# EAGLE library part ATSAMD2*E1* (library maxorig)
ATSAMD2*E - 32bit low-power Cortex M0+ microcontroller This part is for the lowest pin count pieces in the SAMD20 and SAMD21 series of low-power microcontrollers. The SAMD21 series adds USB and DMA to the SAMD20 series. Includes Atmel's configurable serial interfaces (SERCOMs) which can be configured to be a UART, I2C, LIN, or SPI. Available packages include WLCSP (SAMD21 only), TQFP, and QFN. Technical specifications: VCC: 1.62-3.63V Core frequency up to 48MHz Program flash: 32/64/128/256 kb RAM: 4/8/16/32 kb SERCOMS: 4 GPIOs: 26 ADC channels: 10 ADC resolution: 12 bits DACs: 1
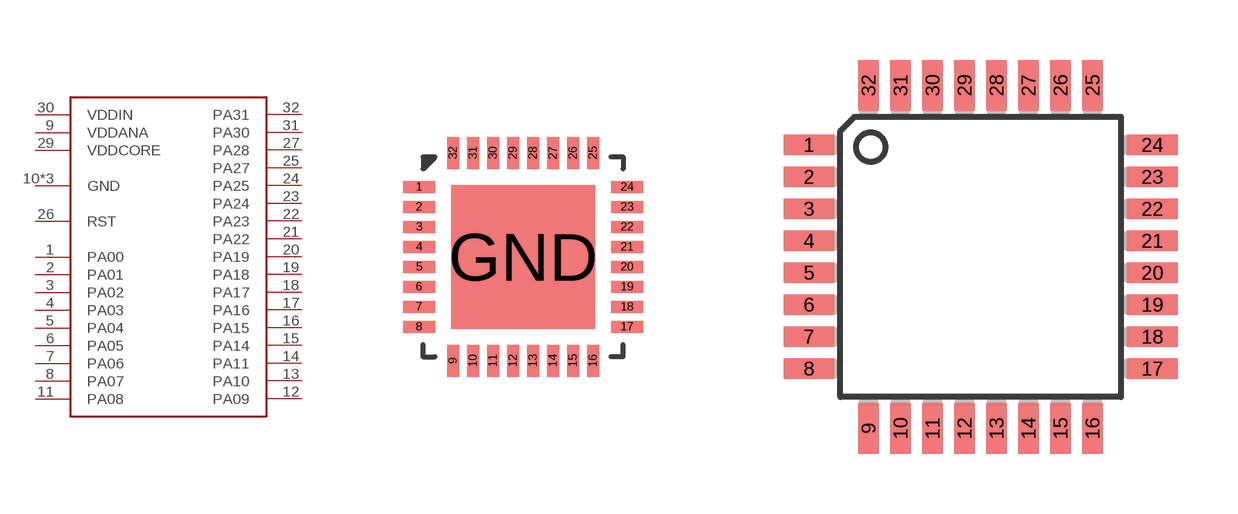
[diagram p26: symbol with the pads of QFN32; footprints QFN32, TQFP32-08]

Designator prefix -

## ATSAMD2E1A-M  [QFN32]
1  PA00
2  PA01
3  PA02
4  PA03
5  PA04
6  PA05
7  PA06
8  PA07
9  VDDANA
10  GND
11  PA08
12  PA09
13  PA10
14  PA11
15  PA14
16  PA15
17  PA16
18  PA17
19  PA18
20  PA19
21  PA22
22  PA23
23  PA24
24  PA25
25  PA27
26  RST
27  PA28
28  GND
29  VDDCORE
30  VDDIN
31  PA30
32  PA31
GND  GND

## ATSAMD2E1A-A  [TQFP32-08]
1  PA00
2  PA01
3  PA02
4  PA03
5  PA04
6  PA05
7  PA06
8  PA07
9  VDDANA
10  GND
11  PA08
12  PA09
13  PA10
14  PA11
15  PA14
16  PA15
17  PA16
18  PA17
19  PA18
20  PA19
21  PA22
22  PA23
23  PA24
24  PA25
25  PA27
26  RST
27  PA28
28  GND
29  VDDCORE
30  VDDIN
31  PA30
32  PA31

## ATSAMD2E1A-U  [WLCSP-35]
PA1  PA00
PA2  PA01
PA3  GND
PA4  VDDANA
PA5  PA06
PA6  VDDIN
PB1  PA30
PB2  PA31
PB3  PA02
PB4  PA04
PB5  PA07
PC1  VDDCORE
PC2  VDDIN
PC3  PA03
PC4  PA05
PC5  PA08
PC6  PA10
PD1  GND
PD2  PA28
PD3  GND
PD4  PA11
PD5  PA09
PD6  GND
PE1  RST
PE2  PA27
PE3  PA22
PE4  PA17
PE5  PA16
PE6  PA14
PF1  PA25
PF2  PA24
PF3  PA23
PF4  PA19
PF5  PA18
PF6  PA15

## Footprint QFN32 (pad centres in mm)
smd 0.8 x 0.3: 1 -2.6,1.75; 2 -2.6,1.25; 3 -2.6,0.75; 4 -2.6,0.25; 5 -2.6,-0.25; 6 -2.6,-0.75; 7 -2.6,-1.25; 8 -2.6,-1.75; 17 2.6,-1.75; 18 2.6,-1.25; 19 2.6,-0.75; 20 2.6,-0.25; 21 2.6,0.25; 22 2.6,0.75; 23 2.6,1.25; 24 2.6,1.75
smd 0.3 x 0.8: 9 -1.75,-2.6; 10 -1.25,-2.6; 11 -0.75,-2.6; 12 -0.25,-2.6; 13 0.25,-2.6; 14 0.75,-2.6; 15 1.25,-2.6; 16 1.75,-2.6; 25 1.75,2.6; 26 1.25,2.6; 27 0.75,2.6; 28 0.25,2.6; 29 -0.25,2.6; 30 -0.75,2.6; 31 -1.25,2.6; 32 -1.75,2.6
smd 3.6 x 3.6: GND 0,0

## Footprint TQFP32-08 (pad centres in mm)
Thin Plasic Quad Flat Package Grid 0.8 mm
smd 1.27 x 0.508: 1 -4.293,2.8; 2 -4.293,2; 3 -4.293,1.2; 4 -4.293,0.4; 5 -4.293,-0.4; 6 -4.293,-1.2; 7 -4.293,-2; 8 -4.293,-2.8; 17 4.293,-2.8; 18 4.293,-2; 19 4.293,-1.2; 20 4.293,-0.4; 21 4.293,0.4; 22 4.293,1.2; 23 4.293,2; 24 4.293,2.8
smd 0.508 x 1.27: 9 -2.8,-4.293; 10 -2,-4.293; 11 -1.2,-4.293; 12 -0.4,-4.293; 13 0.4,-4.293; 14 1.2,-4.293; 15 2,-4.293; 16 2.8,-4.293; 25 2.8,4.293; 26 2,4.293; 27 1.2,4.293; 28 0.4,4.293; 29 -0.4,4.293; 30 -1.2,4.293; 31 -2,4.293; 32 -2.8,4.293

## Footprint WLCSP-35 (pad centres in mm)
smd 0.26 x 0.26: PA1 1,1; PA2 1,0.6; PA3 1,0.2; PA4 1,-0.2; PA5 1,-0.6; PA6 1,-1; PB1 0.6,1; PB2 0.6,0.6; PB3 0.6,0.2; PB4 0.6,-0.2; PB5 0.6,-0.6; PC1 0.2,1; PC2 0.2,0.6; PC3 0.2,0.2; PC4 0.2,-0.2; PC5 0.2,-0.6; PC6 0.2,-1; PD1 -0.2,1; PD2 -0.2,0.6; PD3 -0.2,0.2; PD4 -0.2,-0.2; PD5 -0.2,-0.6; PD6 -0.2,-1; PE1 -0.6,1; PE2 -0.6,0.6; PE3 -0.6,0.2; PE4 -0.6,-0.2; PE5 -0.6,-0.6; PE6 -0.6,-1; PF1 -1,1; PF2 -1,0.6; PF3 -1,0.2; PF4 -1,-0.2; PF5 -1,-0.6; PF6 -1,-1